# EAGLE library part FT2232H (library FTDI)
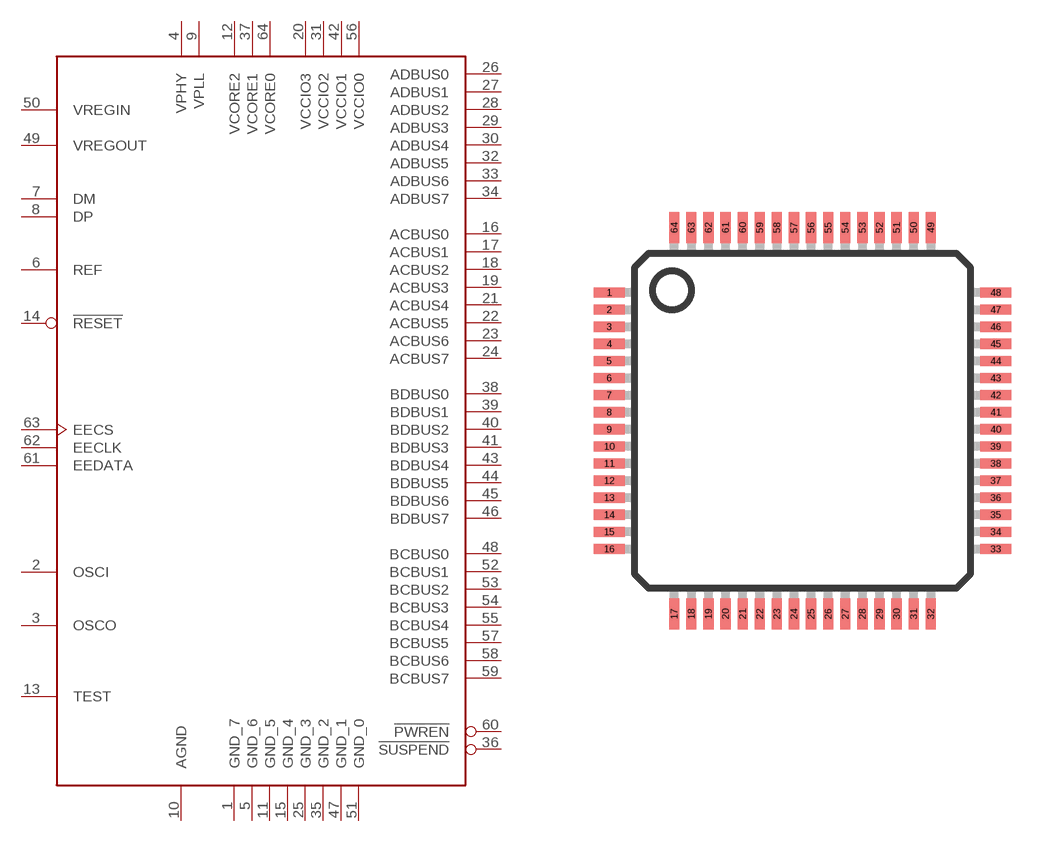
[diagram p0: symbol with the pads of LQFP-ST-64-2; footprint LQFP-ST-64-2]

Designator prefix -

## FT2232H  [LQFP-ST-64-2]
1  GND_7  pwr
2  OSCI  in
3  OSCO  out
4  VPHY  pwr
5  GND_6  pwr
6  REF  in
7  DM  in
8  DP  in
9  VPLL  pwr
10  AGND  pwr
11  GND_5  pwr
12  VCORE2  pwr
13  TEST  in
14  !RESET  in
15  GND_4  pwr
16  ACBUS0
17  ACBUS1
18  ACBUS2
19  ACBUS3
20  VCCIO3  pwr
21  ACBUS4
22  ACBUS5
23  ACBUS6
24  ACBUS7
25  GND_3  pwr
26  ADBUS0
27  ADBUS1
28  ADBUS2
29  ADBUS3
30  ADBUS4
31  VCCIO2  pwr
32  ADBUS5
33  ADBUS6
34  ADBUS7
35  GND_2  pwr
36  !SUSPEND  out
37  VCORE1  pwr
38  BDBUS0
39  BDBUS1
40  BDBUS2
41  BDBUS3
42  VCCIO1  pwr
43  BDBUS4
44  BDBUS5
45  BDBUS6
46  BDBUS7
47  GND_1  pwr
48  BCBUS0
49  VREGOUT  pwr
50  VREGIN  pwr
51  GND_0  pwr
52  BCBUS1
53  BCBUS2
54  BCBUS3
55  BCBUS4
56  VCCIO0  pwr
57  BCBUS5
58  BCBUS6
59  BCBUS7
60  !PWREN  out
61  EEDATA
62  EECLK
63  EECS  out
64  VCORE0  pwr

## Footprint LQFP-ST-64-2 (pad centres in mm)
64-Lead Low Profile Quad Flat Package [LQFP] (ST-64-2) COMPLIANT TO JEDEC STANDARDS MS-026-BCD Source: http://www.analog.com/UploadedFiles/Data_Sheets/288945048AD7C7019_20_1_2_4_5_6_7_0.pdf
smd 0.9 x 0.3: 1 -5.65,3.75; 2 -5.65,3.25; 3 -5.65,2.75; 4 -5.65,2.25; 5 -5.65,1.75; 6 -5.65,1.25; 7 -5.65,0.75; 8 -5.65,0.25; 9 -5.65,-0.25; 10 -5.65,-0.75; 11 -5.65,-1.25; 12 -5.65,-1.75; 13 -5.65,-2.25; 14 -5.65,-2.75; 15 -5.65,-3.25; 16 -5.65,-3.75; 33 5.65,-3.75; 34 5.65,-3.25; 35 5.65,-2.75; 36 5.65,-2.25; 37 5.65,-1.75; 38 5.65,-1.25; 39 5.65,-0.75; 40 5.65,-0.25; 41 5.65,0.25; 42 5.65,0.75; 43 5.65,1.25; 44 5.65,1.75; 45 5.65,2.25; 46 5.65,2.75; 47 5.65,3.25; 48 5.65,3.75
smd 0.3 x 0.9: 17 -3.75,-5.65; 18 -3.25,-5.65; 19 -2.75,-5.65; 20 -2.25,-5.65; 21 -1.75,-5.65; 22 -1.25,-5.65; 23 -0.75,-5.65; 24 -0.25,-5.65; 25 0.25,-5.65; 26 0.75,-5.65; 27 1.25,-5.65; 28 1.75,-5.65; 29 2.25,-5.65; 30 2.75,-5.65; 31 3.25,-5.65; 32 3.75,-5.65; 49 3.75,5.65; 50 3.25,5.65; 51 2.75,5.65; 52 2.25,5.65; 53 1.75,5.65; 54 1.25,5.65; 55 0.75,5.65; 56 0.25,5.65; 57 -0.25,5.65; 58 -0.75,5.65; 59 -1.25,5.65; 60 -1.75,5.65; 61 -2.25,5.65; 62 -2.75,5.65; 63 -3.25,5.65; 64 -3.75,5.65